# Altium footprint library ATK-2014-09-12.PcbLib: 439 footprints (part 16 of 28)
Each footprint in its own frame and in the unit in brackets; x right, y up, seen from the top. Pads: shape width x height; smd on the part's side, far side on the other; paste and mask are expansions set on the pad; w line width, h text height; cw(c..) or ccw(c..) is an arc to the next point about the centre after c.
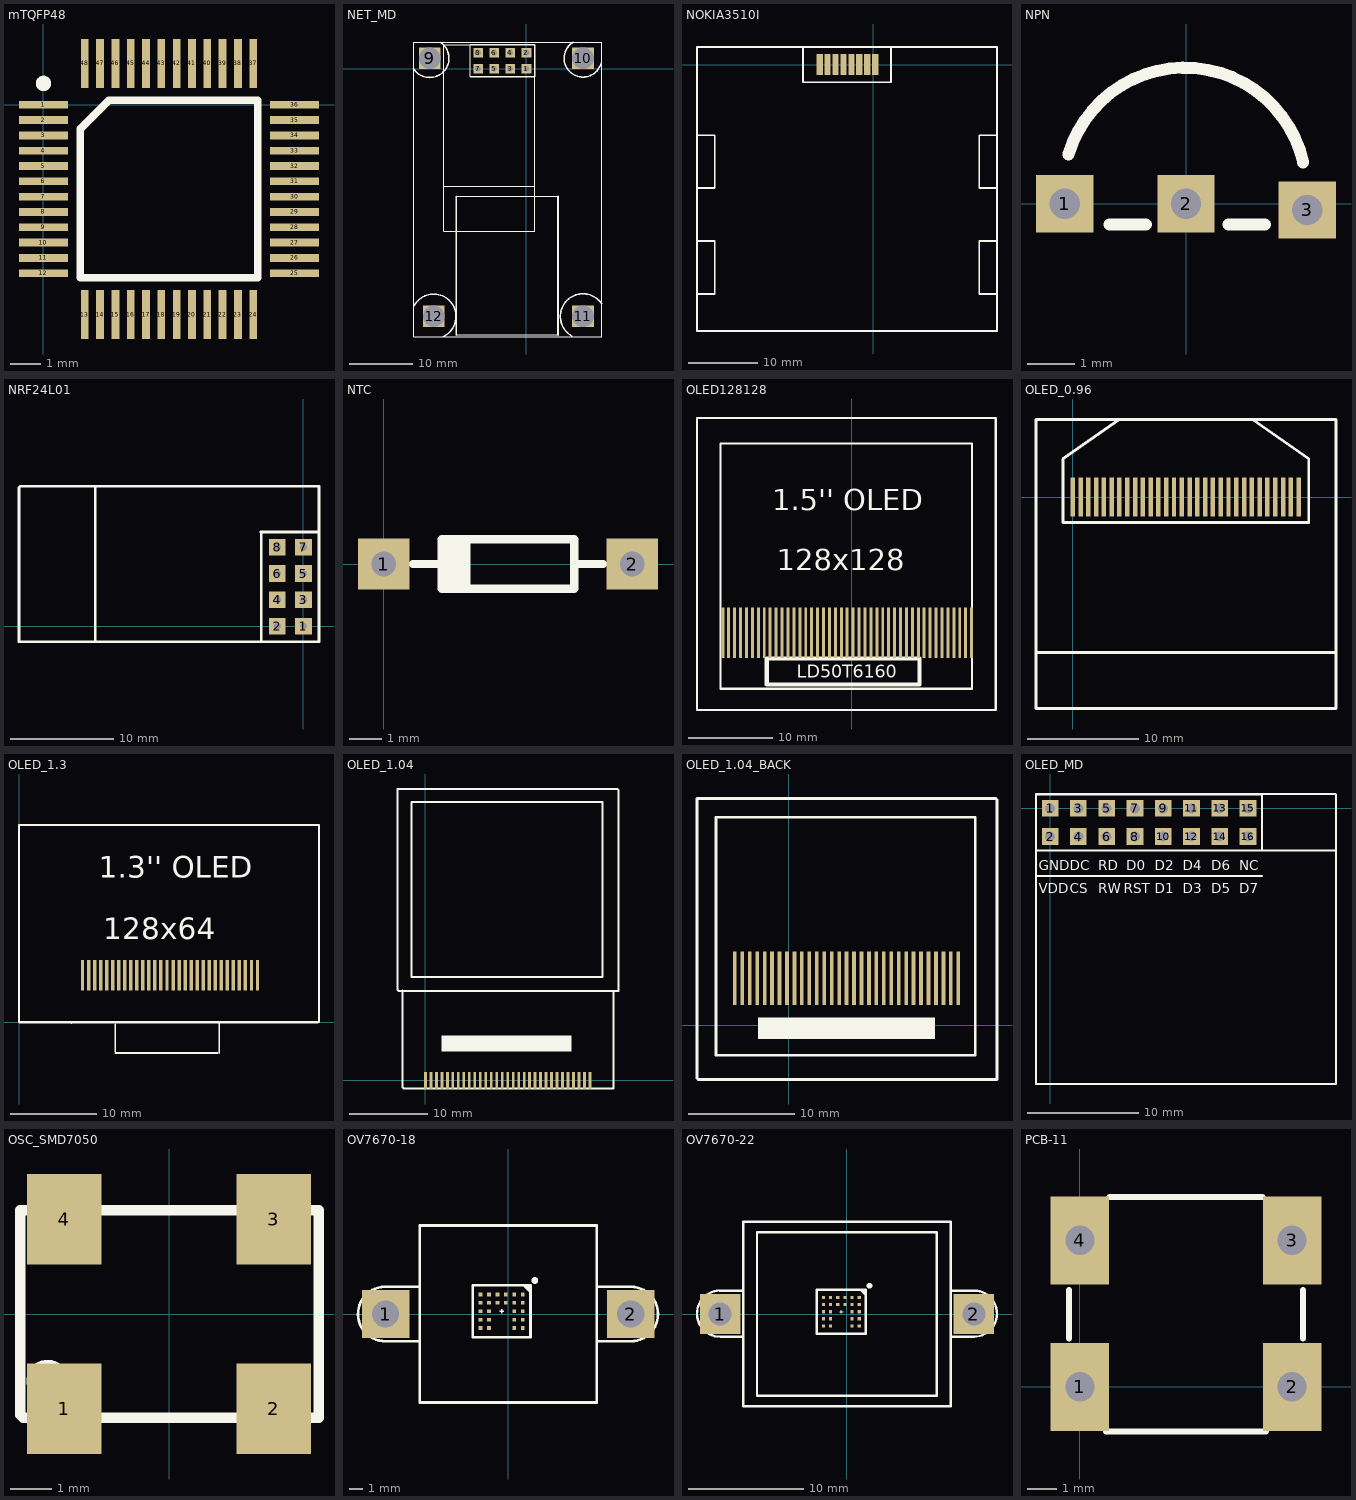
[diagram p15: the footprints below, top view; thin cyan lines are the x and y axes]

## mTQFP48 [mm] "5.8mm"
height 1
pads (48):
  rect 1.6x0.254 smd: 1(0,0) 2(0,-0.5) 3(0,-1) 4(0,-1.5) 5(0,-2) 6(0,-2.5) 7(0,-3) 8(0,-3.5) 9(0,-4) 10(0,-4.5) 11(0,-5) 12(0,-5.5) 25(8.2,-5.5) 26(8.2,-5) 27(8.2,-4.5) 28(8.2,-4) 29(8.2,-3.5) 30(8.2,-3) 31(8.2,-2.5) 32(8.2,-2) 33(8.2,-1.5) 34(8.2,-1) 35(8.2,-0.5) 36(8.2,0)
  rect 0.254x1.6 smd: 13(1.35,-6.85) 14(1.85,-6.85) 15(2.35,-6.85) 16(2.85,-6.85) 17(3.35,-6.85) 18(3.85,-6.85) 19(4.35,-6.85) 20(4.85,-6.85) 21(5.35,-6.85) 22(5.85,-6.85) 23(6.35,-6.85) 24(6.85,-6.85) 37(6.85,1.35) 38(6.35,1.35) 39(5.85,1.35) 40(5.35,1.35) 41(4.85,1.35) 42(4.35,1.35) 43(3.85,1.35) 44(3.35,1.35) 45(2.85,1.35) 46(2.35,1.35) 47(1.85,1.35) 48(1.35,1.35)
Top Overlay:
  circle w0.25: c0,0.7 r0.125
  lines w0.2: 1.2,-5.65 7,-5.65 7,0.15
  lines w0.254: 1.2,-0.792 2.142,0.15 ; 1.2,-0.792 1.2,-5.65 7,-5.65 7,0.15 2.826,0.15 2.142,0.15 ; 1.2,-0.792 2.142,0.15

## NET_MD [mm] "ALIENTEK;NET MODULE;"
height 10
pads (12):
  rect 1.5x1.5 hole 0.9: 1(0,0) 2(0,2.54) 3(-2.54,0) 4(-2.54,2.54) 5(-5.08,0) 6(-5.08,2.54) 7(-7.62,0) 8(-7.62,2.54)
  rect 3.4x3.4 hole 3.4: 9(-15.24,1.651) 10(8.89,1.651) 11(8.89,-38.989) 12(-14.605,-38.989)
Top Overlay:
  lines w0.178: -13,-18.5 1.27,-18.5 ; -12.7,3.81 -12.99,3.81 ; -11.09,-41.91 4.952,-41.91 ; -11.066,-20.066 4.952,-20.066 ; -8.89,-1.27 -8.89,3.81 -12.99,3.81 ; 1.27,-25.6 -13,-25.6 -13,3.8 -12.99,3.81 ; 1.27,-25.57 1.27,-1.27 ; -17.78,-42.164 11.811,-42.164 11.811,4.191 -17.78,4.191 -17.78,-42.164
  lines w0.2: -8.89,-1.27 1.27,-1.27 1.27,3.81 -8.89,3.81
  lines w0.254: -17.78,0 ccw(c-15.24,1.651) -13.589,4.191 ; -17.67,-37.273 cw(c-14.605,-38.989) -13.085,-42.156 ; -11.048,-41.91 -11.048,-20.066 ; 4.952,-41.91 4.952,-20.066 ; 7.151,-42.094 cw(c8.89,-38.989) 11.811,-36.957 ; 7.366,4.191 ccw(c8.89,1.651) 11.756,0.903

## NOKIA3510I [mm]
height 2
pads (8):
  rect 0.9x3 smd: 1(0.254,0) 2(-0.889,0) 3(-2.032,0) 4(-3.175,0) 5(-4.318,0) 6(-5.461,0) 7(-6.604,0) 8(-7.747,0)
Top Overlay:
  lines w0.254: -25.4,-33.02 -22.86,-33.02 -22.86,-25.4 -25.273,-25.4 ; -25.4,-17.78 -22.86,-17.78 -22.86,-10.16 -25.4,-10.16 ; -10.16,2.54 -10.16,-2.54 2.54,-2.54 2.54,2.54 ; 11.049,-38.354 17.78,-38.354 17.78,2.54 -25.4,2.54 -25.4,-38.354 11.557,-38.354 ; 17.653,-25.4 15.24,-25.4 15.24,-33.02 17.78,-33.02 ; 17.78,-17.78 15.24,-17.78 15.24,-10.16 17.78,-10.16
Keep-Out Layer:
  lines w0.254: -25.4,2.54 -24.13,2.54 ; -25.273,-38.354 -24.384,-38.354 -22.479,-38.354 ; -24.384,2.54 -22.733,2.54 ; -4.445,2.54 15.24,2.54 17.018,2.54 17.78,2.54 17.78,-38.227

## NPN [mm]
height 0.965
pads (3):
  rect 1.2x1.2 hole 0.635: 1(-2.54,0) 2(0,0) 3(2.54,-0.127)
Top Overlay:
  lines w0.254: -2.462,1.03 cw(c-0.026,0.312) 2.452,0.869 ; -1.599,-0.433 -0.837,-0.433 ; 0.889,-0.433 1.651,-0.433

## NRF24L01 [mm] "NRF24L01_MODE"
height 10
pads (8):
  rect 1.6x1.6 hole 0.7: 1(0,0) 2(-2.54,0) 3(0,2.54) 4(-2.54,2.54) 5(0,5.08) 6(-2.54,5.08) 7(0,7.62) 8(-2.54,7.62)
Top Overlay:
  lines w0.254: -20.142,-1.5 -20.142,13.5 ; -4.089,-1.5 -4.089,9.068 -4.115,9.093 1.5,9.093 ; -27.5,-1.5 1.5,-1.5 1.5,13.5 -27.394,13.5 -27.5,13.394 -27.5,-1.5

## NTC [mil] "NTC"
height 78.74
pads (2):
  rect 62x62 hole 30: 1(0,0) 2(300,0)
Top Overlay:
  rectangle: 70,-30 100,30
  lines w10: 35,0 70,0 ; 100,-30 100,5 100,30 ; 230,0 265,0 ; 70,-30 230,-30 230,30 70,30 70,-30

## OLED128128 [mm] "OLED"
height 2
pads (43):
  rect 0.35x6 smd: 1(-15.24,16.891) 2(-14.54,16.891) 3(-13.84,16.891) 4(-13.14,16.891) 5(-12.44,16.891) 6(-11.74,16.891) 7(-11.04,16.891) 8(-10.34,16.891) 9(-9.64,16.891) 10(-8.94,16.891) 11(-8.24,16.891) 12(-7.54,16.891) 13(-6.84,16.891) 14(-6.14,16.891) 15(-5.44,16.891) 16(-4.74,16.891) 17(-4.04,16.891) 18(-3.34,16.891) 19(-2.64,16.891) 20(-1.94,16.891) 21(-1.24,16.891) 22(-0.54,16.891) 23(0.16,16.891) 24(0.86,16.891) 25(1.56,16.891) 26(2.26,16.891) 27(2.96,16.891) 28(3.66,16.891) 29(4.36,16.891) 30(5.06,16.891) 31(5.76,16.891) 32(6.46,16.891) 33(7.16,16.891) 34(7.86,16.891) 35(8.56,16.891) 36(9.26,16.891) 37(9.96,16.891) 38(10.66,16.891) 39(11.36,16.891) 40(12.06,16.891) 41(12.76,16.891) 42(13.46,16.891) 43(14.16,16.891)
Top Overlay:
  lines w0.254: -18.288,7.747 17.018,7.747 17.018,42.291 -18.288,42.291 -18.288,7.747 ; -15.494,10.287 14.224,10.287 14.224,39.243 -15.494,39.243 -15.494,10.287
  lines w0.5: -10.033,10.795 -10.033,13.843 8.001,13.843 8.001,10.795 -10.033,10.795
  text "1.5'' OLED" at -9.398,31.369 h2.5
  text "128x128" at -8.89,24.257 h2.5
  text "LD50T6160" at -6.477,11.557 h1.52

## OLED_0.96 [mm] "128*64"
height 0.051
pads (30):
  rect 0.4x3.5 smd: 1(0,0) 2(0.7,0) 3(1.4,0) 4(2.1,0) 5(2.8,0) 6(3.5,0) 7(4.2,0) 8(4.9,0) 9(5.6,0) 10(6.3,0) 11(7,0) 12(7.7,0) 13(8.4,0) 14(9.1,0) 15(9.8,0) 16(10.5,0) 17(11.2,0) 18(11.9,0) 19(12.6,0) 20(13.3,0) 21(14,0) 22(14.7,0) 23(15.4,0) 24(16.1,0) 25(16.8,0) 26(17.5,0) 27(18.2,0) 28(18.9,0) 29(19.6,0) 30(20.3,0)
Top Overlay:
  lines w0.254: -3.302,-13.97 4.572,-13.97 ; 4.191,6.985 -0.889,3.429 -0.889,-2.286 21.209,-2.286 21.209,3.429 16.129,6.985 ; 4.318,-13.97 23.533,-13.97 ; -3.302,-19.015 -3.302,6.985 23.66,6.985 23.66,-19.015 -3.302,-19.015

## OLED_1.3 [mm]
pads (30):
  rect 0.4x3.5 smd: 1(7.366,5.461) 2(8.066,5.461) 3(8.766,5.461) 4(9.466,5.461) 5(10.166,5.461) 6(10.866,5.461) 7(11.566,5.461) 8(12.266,5.461) 9(12.966,5.461) 10(13.666,5.461) 11(14.366,5.461) 12(15.066,5.461) 13(15.766,5.461) 14(16.466,5.461) 15(17.166,5.461) 16(17.866,5.461) 17(18.566,5.461) 18(19.266,5.461) 19(19.966,5.461) 20(20.666,5.461) 21(21.366,5.461) 22(22.066,5.461) 23(22.766,5.461) 24(23.466,5.461) 25(24.166,5.461) 26(24.866,5.461) 27(25.566,5.461) 28(26.266,5.461) 29(26.966,5.461) 30(27.666,5.461)
Top Overlay:
  lines w0.2: 0,0 0,22.87 34.798,22.87 34.798,0 ; 6.096,-0.127 6.223,0 ; 11.176,-3.556 23.066,-3.556 ; 11.176,-3.429 11.176,-2.794 11.176,-0.254 ; 23.241,-3.556 23.241,-2.921 23.241,-0.127
  lines w0.254: 0.054,0 34.671,0
  text "1.3'' OLED" at 9.271,16.764 h2.5
  text "128x64" at 9.779,9.652 h2.5

## OLED_1.04 [mm]
pads (31):
  rect 0.35x2.2 smd: 1(0,0) 2(0.7,0) 3(1.4,0) 4(2.1,0) 5(2.8,0) 6(3.5,0) 7(4.2,0) 8(4.9,0) 9(5.6,0) 10(6.3,0) 11(7,0) 12(7.7,0) 13(8.4,0) 14(9.1,0) 15(9.8,0) 16(10.5,0) 17(11.2,0) 18(11.9,0) 19(12.6,0) 20(13.3,0) 21(14,0) 22(14.7,0) 23(15.4,0) 24(16.1,0) 25(16.8,0) 26(17.5,0) 27(18.2,0) 28(18.9,0) 29(19.6,0) 30(20.3,0) 31(21,0)
Top Overlay:
  rectangle: 2.032,3.683 18.669,5.715
  lines w0.254: -2.921,11.452 -2.921,-0.889 -2.794,-1.016 -2.413,-1.016 23.622,-1.016 ; -2.359,-1.016 -2.159,-1.016 ; 22.987,-1.016 24.003,-1.016 24.003,11.446 ; 24.638,36.449 24.638,37.09 24.517,37.211 -3.556,37.211 -3.556,36.836 -3.556,11.557 -3.429,11.43 24.638,11.43 24.638,36.627 ; -1.778,13.208 -1.778,35.56 22.606,35.56 22.606,35.306 22.606,13.208 -1.778,13.208

## OLED_1.04_BACK [mm]
height 0.051
pads (31):
  rect 0.35x5 smd: 1(-5.08,4.445) 2(-4.38,4.445) 3(-3.68,4.445) 4(-2.98,4.445) 5(-2.28,4.445) 6(-1.58,4.445) 7(-0.88,4.445) 8(-0.18,4.445) 9(0.52,4.445) 10(1.22,4.445) 11(1.92,4.445) 12(2.62,4.445) 13(3.32,4.445) 14(4.02,4.445) 15(4.72,4.445) 16(5.42,4.445) 17(6.12,4.445) 18(6.82,4.445) 19(7.52,4.445) 20(8.22,4.445) 21(8.92,4.445) 22(9.62,4.445) 23(10.32,4.445) 24(11.02,4.445) 25(11.72,4.445) 26(12.42,4.445) 27(13.12,4.445) 28(13.82,4.445) 29(14.52,4.445) 30(15.22,4.445) 31(15.92,4.445)
Top Overlay:
  rectangle: -2.921,-1.27 13.716,0.762
  lines w0.254: 17.526,19.05 17.526,18.796 17.526,19.558 -6.858,19.558 -6.858,-2.794 17.526,-2.794 17.526,19.304 ; 19.558,19.939 19.558,20.58 ; -8.636,-4.953 -8.636,20.326 -8.636,20.701 -8.636,21.336 19.437,21.336 19.558,21.215 19.558,20.117 19.558,-5.08 -8.509,-5.08 -8.636,-4.953

## OLED_MD [mm] "OLED Module;128*64;"
height 10
pads (16):
  rect 1.5x1.5 hole 0.9: 1(0,0) 2(0,-2.54) 3(2.54,0) 4(2.54,-2.54) 5(5.08,0) 6(5.08,-2.54) 7(7.62,0) 8(7.62,-2.54) 9(10.16,0) 10(10.16,-2.54) 11(12.7,0) 12(12.7,-2.54) 13(15.24,0) 14(15.24,-2.54) 15(17.78,0) 16(17.78,-2.54)
Top Overlay:
  lines w0.178: -1.27,-6.096 19.05,-6.096 ; -1.235,-3.775 25.692,-3.775 ; 18.796,1.27 25.654,1.27 ; 19.05,-3.775 19.05,1.27 -1.27,1.27 -1.27,-24.765 25.692,-24.765 25.692,1.235
  lines w0.2: -1.27,1.27 19.05,1.27
  text "GND" at -1.016,-5.588 h0.89
  text "VDD" at -1.016,-7.62 h0.89
  text "DC" at 1.778,-5.588 h0.89
  text "CS" at 1.778,-7.62 h0.89
  text "RD" at 4.318,-5.588 h0.89
  text "RW" at 4.318,-7.62 h0.89
  text "D0" at 6.858,-5.588 h0.89
  text "RST" at 6.604,-7.62 h0.89
  text "D1" at 9.398,-7.62 h0.89
  text "D2" at 9.398,-5.588 h0.89
  text "D3" at 11.938,-7.62 h0.89
  text "D4" at 11.938,-5.588 h0.89
  text "D6" at 14.478,-5.588 h0.89
  text "D5" at 14.478,-7.62 h0.89
  text "D7" at 17.018,-7.62 h0.89
  text "NC" at 17.018,-5.588 h0.89

## OSC_SMD7050 [mm] "XTAL-OSC"
height 1
pads (4):
  rect 1.8x2.2 smd: 1(-2.54,-2.3) 2(2.54,-2.3) 3(2.54,2.3) 4(-2.54,2.3)
Top Overlay:
  circle w0.254: c-2.946,-1.626 r0.389
  lines w0.254: -3.607,-2.443 -3.607,2.515 3.632,2.515 3.632,-2.515 -3.535,-2.515 -3.607,-2.443

## OV7670-18 [mm] "BGA, 24-Leads, Body 4.2x3.8mm,  Pitch 0.62mm"
height 8
pads (26):
  rect 3.5x3.5 hole 2: 1(-9,0) 2(9,0)
  rect 0.28x0.28 smd: A1(1.064,1.442) A2(1.064,0.822) A3(1.064,0.202) A4(1.064,-0.418) A5(1.064,-1.038) B1(0.444,1.442) B2(0.444,0.822) B3(0.444,0.202) B4(0.444,-0.418) B5(0.444,-1.038) C1(-0.176,1.442) C2(-0.176,0.822) D1(-0.796,1.442) D2(-0.796,0.822) E1(-1.416,1.442) E2(-1.416,0.822) E3(-1.416,0.202) E4(-1.416,-0.418) E5(-1.416,-1.038) F1(-2.036,1.442) F2(-2.036,0.822) F3(-2.036,0.202) F4(-2.036,-0.418) F5(-2.036,-1.038)
Top Overlay:
  circle w0.25: c1.953,2.456 r0.125
  region: 1.639,1.63 1.167,2.102 1.639,2.102
  lines w0.102: -0.63,0.202 -0.325,0.202 ; -0.486,0.07 -0.486,0.349
  lines w0.2: 1.167,2.102 1.639,1.63 ; -2.611,-1.698 1.639,-1.698 1.639,2.102 -2.611,2.102 -2.611,-1.698
  lines w0.203: -6.547,2 -9.064,2 ccw(c-9.025,0) -8.992,-2 -6.526,-2 ; -6.5,-0.152 -6.5,6.498 -6.498,6.5 0,6.5 ; -6.5,0 -6.5,-6.5 0,-6.5 6.5,-6.5 6.5,0 6.5,6.5 -0.61,6.5 ; 6.499,2 9.027,2 cw(c8.992,0) 9.011,-2 6.524,-2

## OV7670-22 [mm] "BGA, 24-Leads, Body 4.2x3.8mm,  Pitch 0.62mm"
height 8
pads (26):
  rect 3.5x3.5 hole 2: 1(-11,0) 2(11,0)
  rect 0.28x0.28 smd: A1(1.062,1.44) A2(1.062,0.82) A3(1.062,0.2) A4(1.062,-0.42) A5(1.062,-1.04) B1(0.442,1.44) B2(0.442,0.82) B3(0.442,0.2) B4(0.442,-0.42) B5(0.442,-1.04) C1(-0.178,1.44) C2(-0.178,0.82) D1(-0.798,1.44) D2(-0.798,0.82) E1(-1.418,1.44) E2(-1.418,0.82) E3(-1.418,0.2) E4(-1.418,-0.42) E5(-1.418,-1.04) F1(-2.038,1.44) F2(-2.038,0.82) F3(-2.038,0.2) F4(-2.038,-0.42) F5(-2.038,-1.04)
Top Overlay:
  circle w0.25: c1.951,2.454 r0.125
  region: 1.637,1.628 1.165,2.1 1.637,2.1
  lines w0.102: -0.632,0.2 -0.327,0.2 ; -0.488,0.068 -0.488,0.347
  lines w0.2: 1.165,2.1 1.637,1.628 ; -2.613,-1.7 -2.613,2.1 1.637,2.1 1.637,-1.7 -2.613,-1.7
  lines w0.203: -9.062,-1.967 -10.977,-1.967 cw(c-11.011,0.032) -11.049,2.032 -9,2.032 ; -7.8,-7.112 -7.8,7.1 7.788,7.1 ; -7.788,-7.1 7.788,-7.1 ; 7.8,-7.1 7.8,7.1 ; 9,2.032 11.049,2.032 cw(c11.014,0.032) 11.033,-1.968 9.063,-1.968 ; 9,8 -9,8 -9,-8 9,-8 9,8.001

## PCB-11 [mm] "7mm*5mm,2r:1.5mm"
height 8.4
pads (4):
  rect 2x3 hole 1: 1(0,0) 2(7.239,0) 3(7.239,5) 4(0,5)
Top Overlay:
  lines w0.203: -0.381,1.651 -0.381,3.302 ; 0.889,-1.524 6.35,-1.524 ; 1.016,6.477 6.223,6.477 ; 7.62,1.651 7.62,3.302